# Altium schematic symbol library PCBfly.SCHLIB: 20 symbols
Pins are listed as number, name and electrical type; pins without a type are passive.

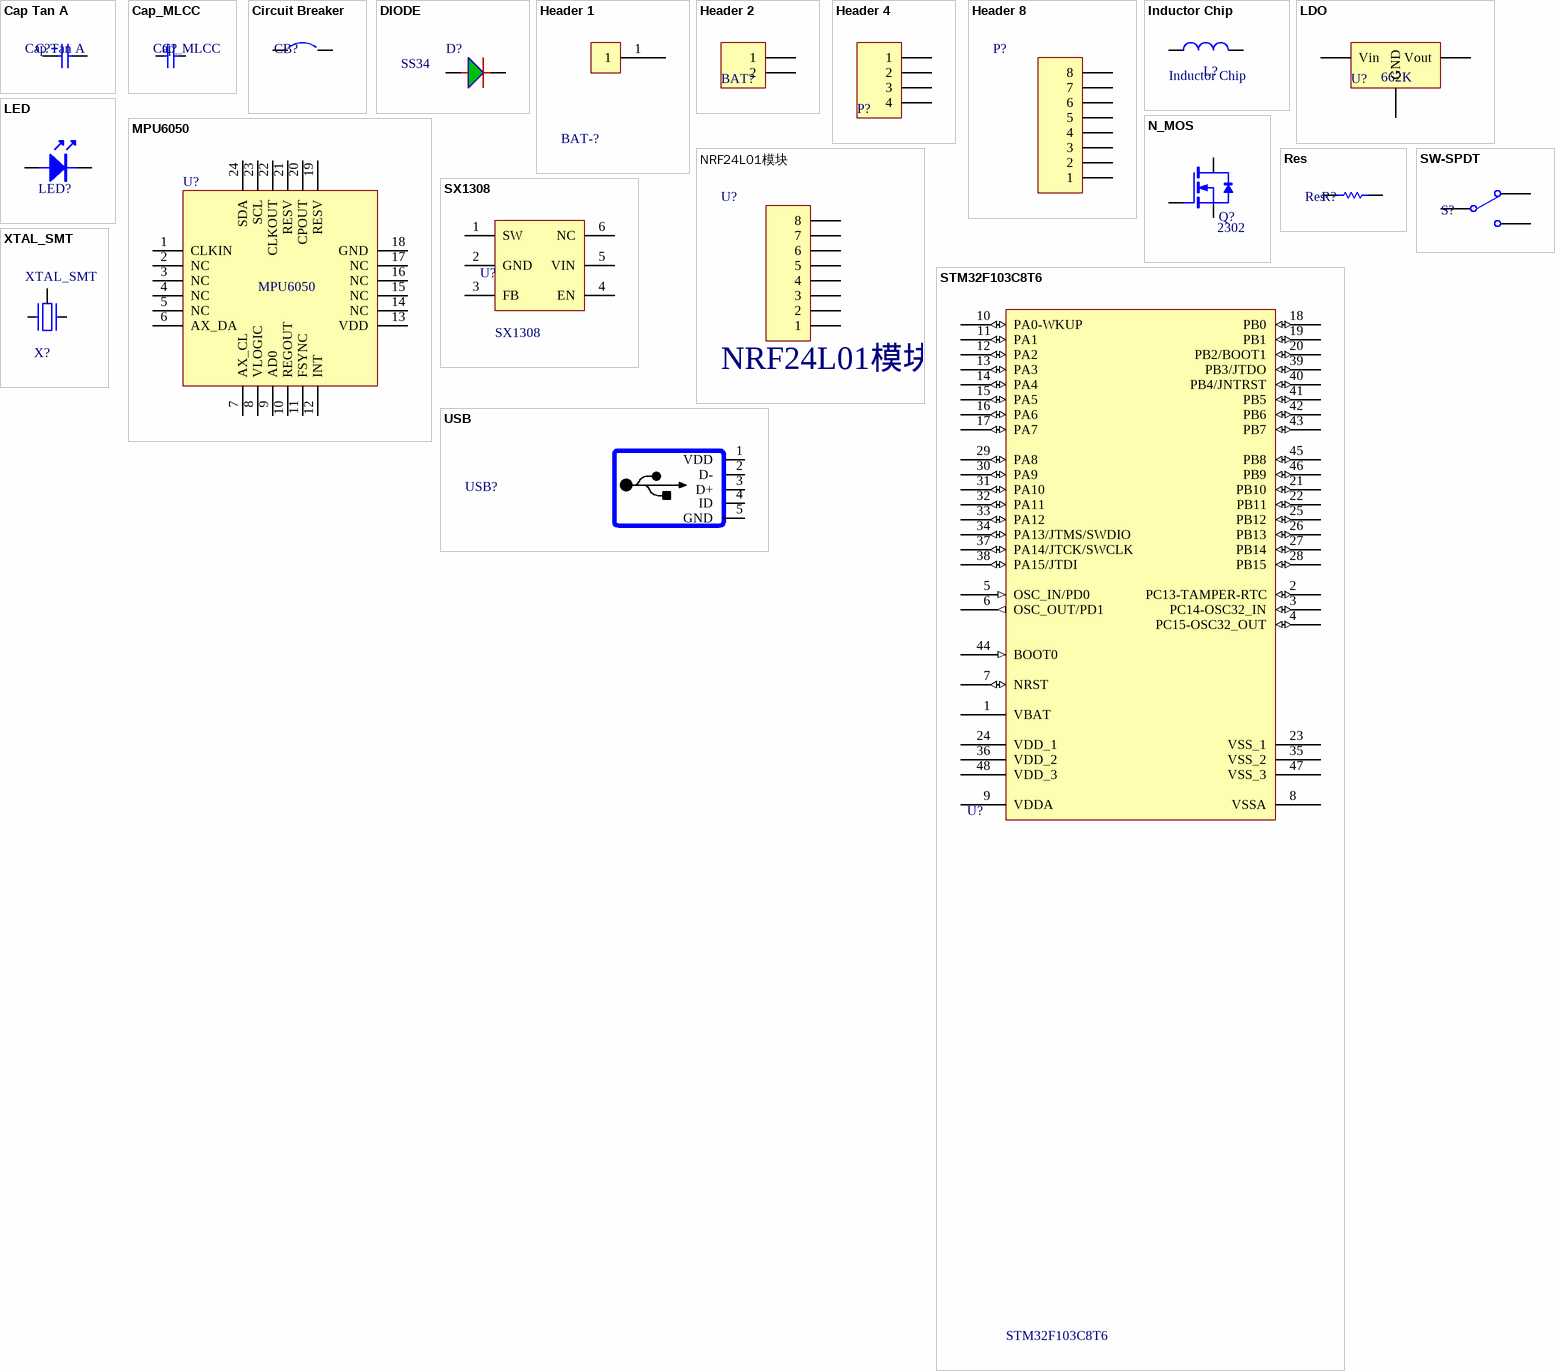
[diagram p0: symbols Cap Tan A to XTAL_SMT]

## Cap Tan A
designator C?
Capacitor; Voltage: 16V; Published: 8-Jun-2000; Revision: July-2002: Re-released for DXP Platform.; Publisher: Altium Limited
footprint CTan(6032) (长6.0mm，宽3.2mm，厚2.5mm)
pins: 1 2, 2 1

## Cap_MLCC
designator C?
Capacitor
footprint 0805C
pins: 1, 2

## Circuit Breaker
designator CB?
Circuit Breaker; Published: 24-Mar-1999; LatestRevisionDate: 17-Jul-2002; LatestRevisionNote: Re-released for DXP Platform.; PackageReference: SPST-2; Publisher: Altium Limited
footprint JUMP
pins: 1, 2

## DIODE
designator D?, comment SS34
footprint SMA (4.5x2.6*2.2mm（长宽高，不包括引脚）)
pins: 1, 2
2 alternate drawings of the same symbol

## Header 1
designator BAT-?  (value not drawn)
footprint 电池接口
pins: 1

## Header 2
designator BAT?  (value not drawn)
Header, 2-Pin; LatestRevisionDate: 17-Jul-2002; LatestRevisionNote: Re-released for DXP Platform.; Publisher: Altium Limited
footprint HDR2
pins: 1, 2

## Header 4
designator P?  (value not drawn)
Header, 4-Pin; LatestRevisionDate: 17-Jul-2002; LatestRevisionNote: Re-released for DXP Platform.; Publisher: Altium Limited
footprint HDR2.54-LI-4P (排针，4脚)
pins: 1, 2, 3, 4

## Header 8
designator P?  (value not drawn)
Header, 8-Pin; LatestRevisionDate: 17-Jul-2002; LatestRevisionNote: Re-released for DXP Platform.; Publisher: Altium Limited
footprint HDR8
pins: 1, 2, 3, 4, 5, 6, 7, 8

## Inductor Chip
designator L?
Inductor; Published: 8-Jun-2000; Revision: July-2002: Re-released for DXP Platform.; Publisher: Altium Limited
footprint CD53 (5.8*5.2*3.5mm（长宽高）)
pins: 1, 2

## LDO
designator U?, comment 662K
LDO
footprint LDO
pins: 1 GND, 2 Vout, 3 Vin

## LED
designator LED?  (value not drawn)
footprint LED 0805W (白色0805LED)
pins: 1, 2
2 alternate drawings of the same symbol

## MPU6050
designator U?
footprint QFN24
pins: 1 CLKIN, 2 NC, 3 NC, 4 NC, 5 NC, 6 AX_DA, 7 AX_CL, 8 VLOGIC, 9 AD0, 10 REGOUT, 11 FSYNC, 12 INT, 13 VDD, 14 NC, 15 NC, 16 NC, 17 NC, 18 GND, 19 RESV, 20 CPOUT, 21 RESV, 22 CLKOUT, 23 SCL, 24 SDA

## N_MOS
designator Q?, comment 2302
N-Channel Power MOSFET
footprint NMOS
pins: 1 G, 2 D, 3 S

## NRF24L01模块
designator U?
Header, 8-Pin; LatestRevisionDate: 17-Jul-2002; LatestRevisionNote: Re-released for DXP Platform.; Publisher: Altium Limited
footprint 2.4G
pins: 1, 2, 3, 4, 5, 6, 7, 8

## Res
designator R?
Resistor; Published: 8-Jun-2000; LatestRevisionDate: 17-Jul-2002; LatestRevisionNote: Re-released for DXP Platform.; PackageReference: 0603_R; Publisher: Altium Limited; PackageDescription: Axial Device, Thru-Hole; 2 Leads; 0.3 in Pin Spacing
footprint 0805R (1/8W)
pins: 1, 2

## STM32F103C8T6
designator U?
footprint LQFP48
pins: 1 VBAT (power), 2 PC13-TAMPER-RTC (io), 3 PC14-OSC32_IN (io), 4 PC15-OSC32_OUT (io), 5 OSC_IN/PD0 (in), 6 OSC_OUT/PD1 (out), 7 NRST (io), 8 VSSA (power), 9 VDDA (power), 10 PA0-WKUP (io), 11 PA1 (io), 12 PA2 (io), 13 PA3 (io), 14 PA4 (io), 15 PA5 (io), 16 PA6 (io), 17 PA7 (io), 18 PB0 (io), 19 PB1 (io), 20 PB2/BOOT1 (io), 21 PB10 (io), 22 PB11 (io), 23 VSS_1 (power), 24 VDD_1 (power), 25 PB12 (io), 26 PB13 (io), 27 PB14 (io), 28 PB15 (io), 29 PA8 (io), 30 PA9 (io), 31 PA10 (io), 32 PA11 (io), 33 PA12 (io), 34 PA13/JTMS/SWDIO (io), 35 VSS_2 (power), 36 VDD_2 (power), 37 PA14/JTCK/SWCLK (io), 38 PA15/JTDI (io), 39 PB3/JTDO (io), 40 PB4/JNTRST (io), 41 PB5 (io), 42 PB6 (io), 43 PB7 (io), 44 BOOT0 (in), 45 PB8 (io), 46 PB9 (io), 47 VSS_3 (power), 48 VDD_3 (power)

## SW-SPDT
designator S?  (value not drawn)
SPDT Subminiature Toggle Switch, Right Angle Mounting, Vertical Actuation; Published: 24-Mar-1999; LatestRevisionDate: 17-Dec-2003; LatestRevisionNote: Schematic revised, PCB Footprint replaced.; DatasheetVersion: 05-Dec-2000; PackageReference: TL36WW15050; Publisher: Altium Limited; PackageDescription: Switch; 4 Leads; ComponentLink1Description: Manufacturer Link; ComponentLink1URL: http://www.apem.com
footprint SWITCH
pins: 1, 2, 3

## SX1308
designator U?
footprint SOT23-6L (3x1.6x1.1mm(长宽高))
pins: 1 SW (power), 2 GND (power), 3 FB (power), 4 EN, 5 VIN, 6 NC

## USB
designator USB?  (value not drawn)
footprint USB_micro (micro型USB ，5.7*7.8*2.5mm)
pins: 1 VDD, 2 D-, 3 D+, 4 ID, 5 GND

## XTAL_SMT
designator X?
footprint XTAL_3225-4P (3.2*2.5*0.7mm(长宽高))
pins: 1, 2, 3